# Altium footprint library LegacyDO.PcbLib: 67 footprints (part 1 of 5)
Each footprint in its own frame and in the unit in brackets; x right, y up, seen from the top. Pads: shape width x height; smd on the part's side, far side on the other; paste and mask are expansions set on the pad; w line width, h text height; cw(c..) or ccw(c..) is an arc to the next point about the centre after c.
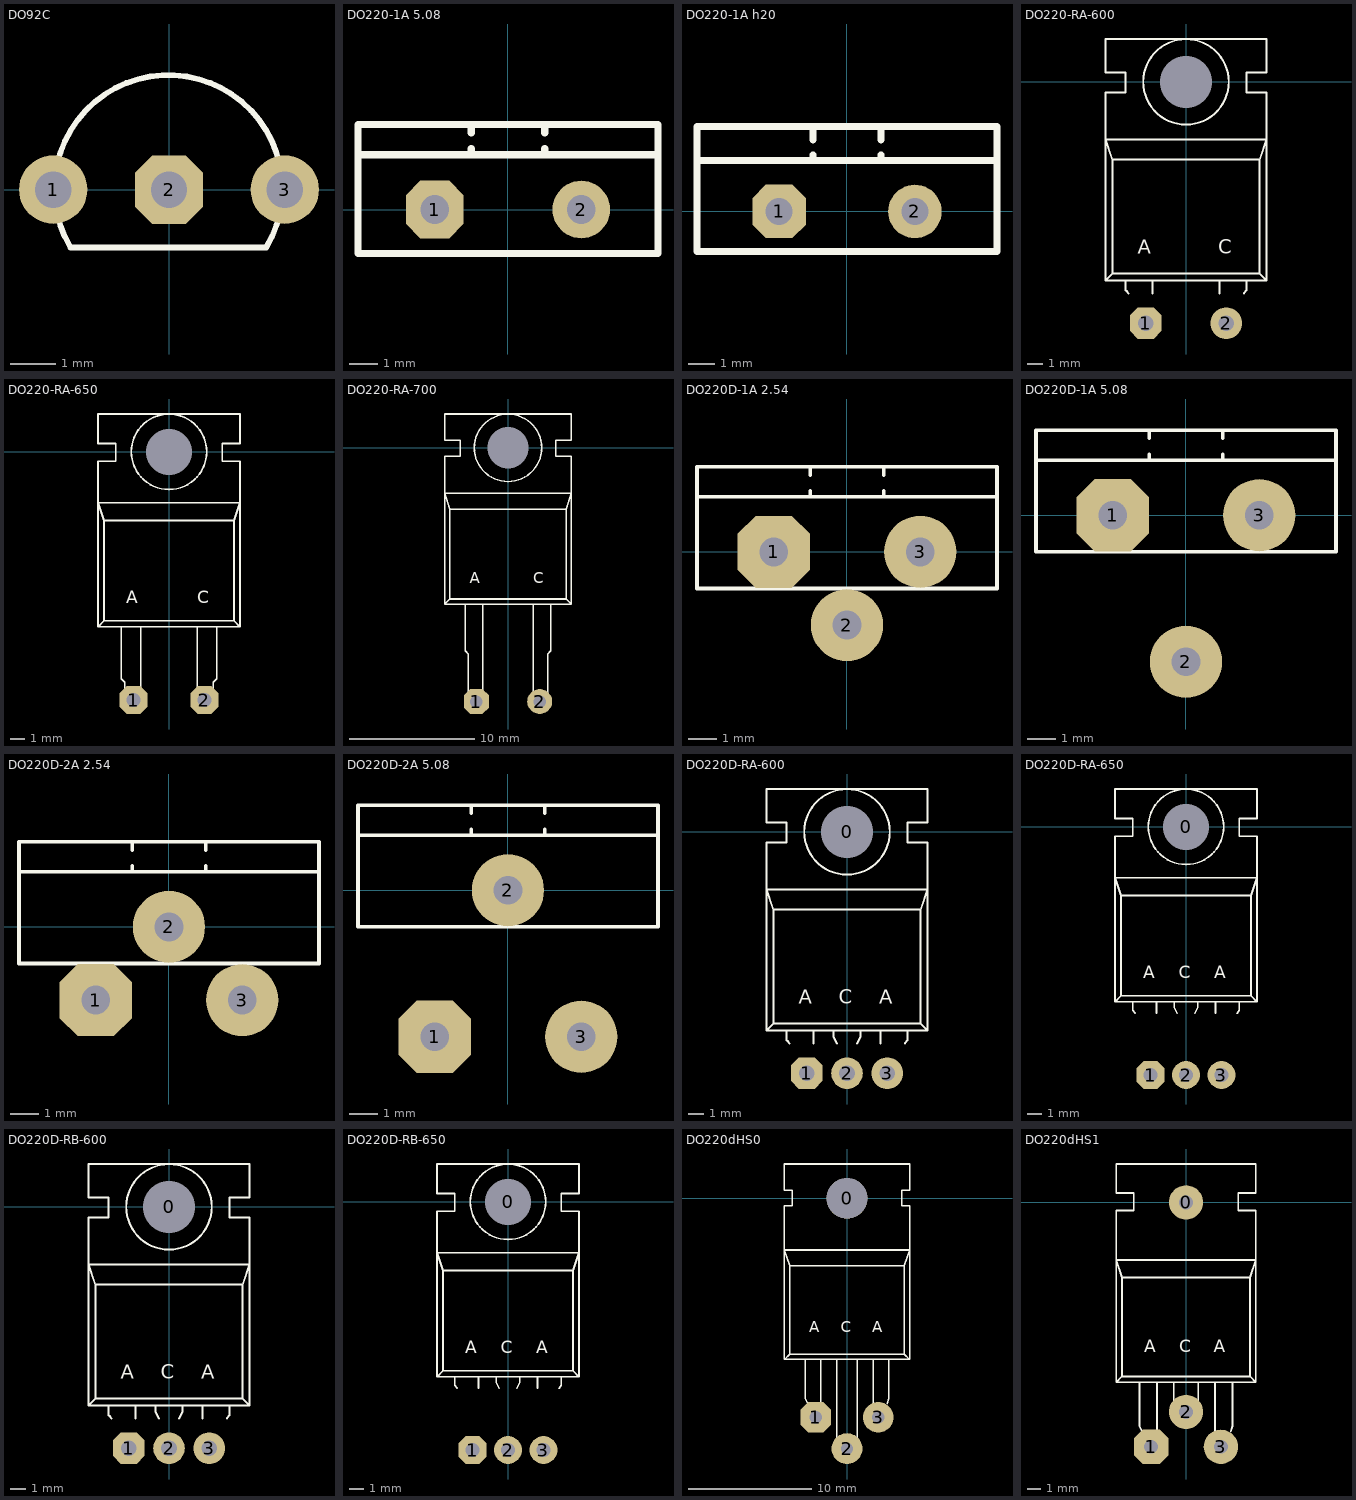
[diagram p0: the footprints below, top view; thin cyan lines are the x and y axes]

## DO92C [mm]
pads (3):
  round 1.5 hole 0.8: 1(-2.54,0) 3(2.54,0)
  oct 1.5x1.5 hole 0.8: 2(0,0)
Top Overlay:
  lines w0.125: -2.159,-1.27 cw(c-0.013,0.012) 2.133,-1.27 -2.159,-1.27
3D body "TO-92C.STEP": height 8, standoff -3.02, extent -2.787,-1.517 2.787,2.413

## DO220-1A 5.08 [mm]
pads (2):
  oct 2x2 hole 1: 1(-2.54,0)
  round 2 hole 1: 2(2.54,0)
Top Overlay:
  lines w0.254: -5.2,1.905 5.2,1.905 ; -1.27,1.905 -1.27,2.117 ; -1.27,2.667 -1.27,2.921 ; 1.27,1.905 1.27,2.117 ; 1.27,2.667 1.27,2.921 ; -5.2,-1.524 -5.2,2.95 5.2,2.95 5.2,-1.524 -5.2,-1.524
Mechanical 3:
  text ".Designator / .Comment" at -2.159,0.508 h1.02
3D body "DO-220-1A 5.08.STEP": height 23.21, standoff -0.91, extent -5.202,-1.55 5.198,2.95

## DO220-1A h20 [mm]
pads (2):
  oct 2x2 hole 1: 1(-2.54,0)
  round 2 hole 1: 2(2.54,0)
Top Overlay:
  lines w0.254: -5.607,1.905 5.607,1.905 ; -1.27,1.905 -1.27,2.117 ; -1.27,2.667 -1.27,3.175 ; 1.27,1.905 1.27,2.117 ; 1.27,2.667 1.27,3.175 ; -5.607,-1.495 5.607,-1.495 5.607,3.175 -5.607,3.175 -5.607,-1.495
Mechanical 3:
  text ".Designator / .Comment" at -2.159,1.143 h1.02
3D body "DO-220AB h20.STEP": height 22.87, standoff -2.5, extent -5.607,-1.495 5.607,3.195

## DO220-RA-600 [mm]
pads (3):
  round 0 hole 3.3: 0(0,0)
  oct 2x2 hole 1: 1(-2.54,-15.24)
  round 2 hole 1: 2(2.54,-15.24)
Top Overlay:
  circle w0.125: c0,0 r2.7
  lines w0.125: -3.81,-13.166 -3.81,-12.531 ; -3.762,-13.198 -3.647,-13.359 ; -2.117,-13.359 -2.117,-12.531 ; 2.117,-13.359 2.117,-12.531 ; 3.655,-13.359 3.818,-13.142 ; 3.81,-13.166 3.81,-12.531 ; -5.08,-12.531 -5.08,-0.677 -3.81,-0.677 -3.81,0.593 -5.08,0.593 -5.08,2.709 5.08,2.709 5.08,0.593 3.81,0.593 3.81,-0.677 5.08,-0.677 5.08,-12.531 ; -5.08,-12.531 5.08,-12.531 ; -5.08,-12.531 -4.657,-12.107 ; -4.657,-12.107 -4.657,-4.911 ; -4.657,-12.107 4.657,-12.107 ; -4.657,-4.911 -5.08,-3.641 5.08,-3.641 4.657,-4.911 ; -4.657,-4.911 4.657,-4.911 ; 4.657,-12.107 4.657,-4.911 ; 4.657,-12.107 5.08,-12.531
  text "C" at 2.032,-11.176 h1.52
  text "A" at -3.048,-11.176 h1.52

## DO220-RA-650 [mm]
pads (3):
  round 0 hole 3.3: 0(0,0)
  oct 2x2 hole 1: 1(-2.54,-17.78) 2(2.54,-17.78)
Top Overlay:
  circle w0.125: c0,0 r2.7
  lines w0.125: -3.429,-12.573 -3.429,-16.256 -3.175,-16.51 -3.175,-17.78 -2.032,-17.78 -2.032,-12.573 ; 2.032,-12.573 2.032,-17.78 3.175,-17.78 3.175,-16.51 3.429,-16.256 3.429,-12.573 ; -5.08,-12.531 -5.08,-0.677 -3.81,-0.677 -3.81,0.593 -5.08,0.593 -5.08,2.709 5.08,2.709 5.08,0.593 3.81,0.593 3.81,-0.677 5.08,-0.677 5.08,-12.531 ; -5.08,-12.531 5.08,-12.531 ; -5.08,-12.531 -4.657,-12.107 ; -4.657,-12.107 -4.657,-4.911 ; -4.657,-12.107 4.657,-12.107 ; -4.657,-4.911 -5.08,-3.641 5.08,-3.641 4.657,-4.911 ; -4.657,-4.911 4.657,-4.911 ; 4.657,-12.107 4.657,-4.911 ; 4.657,-12.107 5.08,-12.531
  text "A" at -3.048,-11.176 h1.52
  text "C" at 2.032,-11.176 h1.52

## DO220-RA-700 [mm]
pads (3):
  round 0 hole 3.3: 0(0,0)
  oct 2x2 hole 1: 1(-2.54,-20.32)
  round 2 hole 1: 2(2.54,-20.32)
Top Overlay:
  circle w0.125: c0,0 r2.7
  lines w0.125: -3.429,-12.573 -3.429,-16.256 -3.175,-16.51 -3.175,-20.32 -2.032,-20.32 -2.032,-12.573 ; 2.032,-12.573 2.032,-20.32 3.175,-20.32 3.175,-16.51 3.429,-16.256 3.429,-12.573 ; -5.08,-12.531 -4.657,-12.107 ; -5.08,-12.531 5.08,-12.531 ; -5.08,-12.531 -5.08,-0.677 -3.81,-0.677 -3.81,0.593 -5.08,0.593 -5.08,2.709 5.08,2.709 5.08,0.593 3.81,0.593 3.81,-0.677 5.08,-0.677 5.08,-12.531 ; -4.657,-12.107 4.657,-12.107 ; -4.657,-12.107 -4.657,-4.911 ; -4.657,-4.911 4.657,-4.911 ; -4.657,-4.911 -5.08,-3.641 5.08,-3.641 4.657,-4.911 ; 4.657,-12.107 5.08,-12.531 ; 4.657,-12.107 4.657,-4.911
  text "A" at -3.048,-11.176 h1.52
  text "C" at 2.032,-11.176 h1.52

## DO220D-1A 2.54 [mm]
pads (3):
  oct 2.5x2.5 hole 1: 1(-2.54,0)
  round 2.5 hole 1: 2(0,-2.54) 3(2.54,0)
Top Overlay:
  lines w0.125: -5.2,1.905 5.2,1.905 ; -1.27,1.905 -1.27,2.117 ; -1.27,2.667 -1.27,2.921 ; 1.27,1.905 1.27,2.117 ; 1.27,2.667 1.27,2.921 ; -5.2,-1.27 5.2,-1.27 5.2,2.95 -5.2,2.95 -5.2,-1.27
3D body "TO220-1A 2.54.STEP": height 23.29, standoff -3.87, extent -5.2,-2.791 5.2,2.95

## DO220D-1A 5.08 [mm]
pads (3):
  oct 2.5x2.5 hole 1: 1(-2.54,0)
  round 2.5 hole 1: 2(0,-5.08) 3(2.54,0)
Top Overlay:
  lines w0.125: -5.2,1.905 5.2,1.905 ; -1.27,1.905 -1.27,2.117 ; -1.27,2.667 -1.27,2.921 ; 1.27,1.905 1.27,2.117 ; 1.27,2.667 1.27,2.921 ; -5.2,-1.27 5.2,-1.27 5.2,2.95 -5.2,2.95 -5.2,-1.27
3D body "TO220-1A 5.08.STEP": height 23.29, standoff -2.41, extent -5.2,-5.331 5.2,2.95

## DO220D-2A 2.54 [mm]
pads (3):
  oct 2.5x2.5 hole 1: 1(-2.54,-2.54)
  round 2.5 hole 1: 2(0,0) 3(2.54,-2.54)
Top Overlay:
  lines w0.125: -5.2,1.905 5.2,1.905 ; -1.27,1.905 -1.27,2.117 ; -1.27,2.667 -1.27,2.921 ; 1.27,1.905 1.27,2.117 ; 1.27,2.667 1.27,2.921 ; -5.2,-1.27 5.2,-1.27 5.2,2.95 -5.2,2.95 -5.2,-1.27
3D body "TO220-2A 2.54.STEP": height 23.29, standoff -3.87, extent -5.2,-2.791 5.2,2.95

## DO220D-2A 5.08 [mm]
pads (3):
  oct 2.5x2.5 hole 1: 1(-2.54,-5.08)
  round 2.5 hole 1: 2(0,0) 3(2.54,-5.08)
Top Overlay:
  lines w0.125: -5.2,1.905 5.2,1.905 ; -1.27,1.905 -1.27,2.117 ; -1.27,2.667 -1.27,2.921 ; 1.27,1.905 1.27,2.117 ; 1.27,2.667 1.27,2.921 ; -5.2,-1.27 -5.2,2.95 5.2,2.95 5.2,-1.27 -5.2,-1.27
3D body "TO220-2A 5.08.STEP": height 23.29, standoff -2.41, extent -5.2,-5.331 5.2,2.95

## DO220D-RA-600 [mm]
pads (4):
  round 3 hole 3.3: 0(0,0)
  oct 2x2 hole 1: 1(-2.54,-15.24)
  round 2 hole 1: 2(0,-15.24) 3(2.54,-15.24)
Top Overlay:
  circle w0.125: c0,0 r2.7
  lines w0.125: -3.81,-13.166 -3.81,-12.531 ; -3.762,-13.198 -3.647,-13.359 ; -2.117,-13.359 -2.117,-12.531 ; -0.847,-12.531 -0.847,-12.954 -0.635,-13.359 ; 0.635,-13.359 0.847,-12.954 0.847,-12.531 ; 2.117,-13.359 2.117,-12.531 ; 3.655,-13.359 3.818,-13.142 ; 3.81,-13.166 3.81,-12.531 ; -5.08,-12.531 -5.08,-0.677 -3.81,-0.677 -3.81,0.593 -5.08,0.593 -5.08,2.709 5.08,2.709 5.08,0.593 3.81,0.593 3.81,-0.677 5.08,-0.677 5.08,-12.531 ; -5.08,-12.531 5.08,-12.531 ; -5.08,-12.531 -4.657,-12.107 ; -4.657,-12.107 -4.657,-4.911 ; -4.657,-12.107 4.657,-12.107 ; -4.657,-4.911 -5.08,-3.641 5.08,-3.641 4.657,-4.911 ; -4.657,-4.911 4.657,-4.911 ; 4.657,-12.107 4.657,-4.911 ; 4.657,-12.107 5.08,-12.531
  text "C" at -0.508,-11.176 h1.52
  text "A" at -3.048,-11.176 h1.52
  text "A" at 2.032,-11.176 h1.52
3D body "TO220-RA-600.STEP": height 4.45, standoff -1.79, extent -5.08,-15.43 5.08,2.54

## DO220D-RA-650 [mm]
pads (4):
  round 3 hole 3.3: 0(0,0)
  oct 2x2 hole 1: 1(-2.54,-17.78)
  round 2 hole 1: 2(0,-17.78) 3(2.54,-17.78)
Top Overlay:
  circle w0.125: c0,0 r2.7
  lines w0.125: -3.81,-13.166 -3.81,-12.531 ; -3.762,-13.198 -3.647,-13.359 ; -2.117,-13.359 -2.117,-12.531 ; -0.847,-12.531 -0.847,-12.954 -0.635,-13.359 ; 0.635,-13.359 0.847,-12.954 0.847,-12.531 ; 2.117,-13.359 2.117,-12.531 ; 3.655,-13.359 3.818,-13.142 ; 3.81,-13.166 3.81,-12.531 ; -5.08,-12.531 -5.08,-0.677 -3.81,-0.677 -3.81,0.593 -5.08,0.593 -5.08,2.709 5.08,2.709 5.08,0.593 3.81,0.593 3.81,-0.677 5.08,-0.677 5.08,-12.531 ; -5.08,-12.531 5.08,-12.531 ; -5.08,-12.531 -4.657,-12.107 ; -4.657,-12.107 -4.657,-4.911 ; -4.657,-12.107 4.657,-12.107 ; -4.657,-4.911 -5.08,-3.641 5.08,-3.641 4.657,-4.911 ; -4.657,-4.911 4.657,-4.911 ; 4.657,-12.107 4.657,-4.911 ; 4.657,-12.107 5.08,-12.531
  text "A" at 2.032,-11.176 h1.52
  text "A" at -3.048,-11.176 h1.52
  text "C" at -0.508,-11.176 h1.52
3D body "TO220-RA-650.STEP": height 4.45, standoff -1.79, extent -5.08,-18.01 5.08,2.54

## DO220D-RB-600 [mm]
pads (4):
  round 3 hole 3.3: 0(0,0)
  oct 2x2 hole 1: 1(-2.54,-15.24)
  round 2 hole 1: 2(0,-15.24) 3(2.54,-15.24)
Top Overlay:
  circle w0.125: c0,0 r2.7
  lines w0.125: -3.81,-13.166 -3.81,-12.531 ; -3.762,-13.198 -3.647,-13.359 ; -2.117,-13.359 -2.117,-12.531 ; -0.847,-12.531 -0.847,-12.954 -0.635,-13.359 ; 0.635,-13.359 0.847,-12.954 0.847,-12.531 ; 2.117,-13.359 2.117,-12.531 ; 3.655,-13.359 3.818,-13.142 ; 3.81,-13.166 3.81,-12.531 ; -5.08,-12.531 -4.657,-12.107 ; -5.08,-12.531 5.08,-12.531 ; -5.08,-12.531 -5.08,-0.677 -3.81,-0.677 -3.81,0.593 -5.08,0.593 -5.08,2.709 5.08,2.709 5.08,0.593 3.81,0.593 3.81,-0.677 5.08,-0.677 5.08,-12.531 ; -4.657,-12.107 4.657,-12.107 ; -4.657,-12.107 -4.657,-4.911 ; -4.657,-4.911 4.657,-4.911 ; -4.657,-4.911 -5.08,-3.641 5.08,-3.641 4.657,-4.911 ; 4.657,-12.107 5.08,-12.531 ; 4.657,-12.107 4.657,-4.911
  text "A" at 2.032,-11.176 h1.52
  text "A" at -3.048,-11.176 h1.52
  text "C" at -0.508,-11.176 h1.52
3D body "TO220-RB-600.STEP": height 2.32, standoff -5, extent -5.08,-15.43 5.08,2.54

## DO220D-RB-650 [mm]
pads (4):
  round 3 hole 3.3: 0(0,0)
  oct 2x2 hole 1: 1(-2.54,-17.78)
  round 2 hole 1: 2(0,-17.78) 3(2.54,-17.78)
Top Overlay:
  circle w0.125: c0,0 r2.7
  lines w0.125: -3.81,-13.166 -3.81,-12.531 ; -3.762,-13.198 -3.647,-13.359 ; -2.117,-13.359 -2.117,-12.531 ; -0.847,-12.531 -0.847,-12.954 -0.635,-13.359 ; 0.635,-13.359 0.847,-12.954 0.847,-12.531 ; 2.117,-13.359 2.117,-12.531 ; 3.655,-13.359 3.818,-13.142 ; 3.81,-13.166 3.81,-12.531 ; -5.08,-12.531 -5.08,-0.677 -3.81,-0.677 -3.81,0.593 -5.08,0.593 -5.08,2.709 5.08,2.709 5.08,0.593 3.81,0.593 3.81,-0.677 5.08,-0.677 5.08,-12.531 ; -5.08,-12.531 5.08,-12.531 ; -5.08,-12.531 -4.657,-12.107 ; -4.657,-12.107 -4.657,-4.911 ; -4.657,-12.107 4.657,-12.107 ; -4.657,-4.911 -5.08,-3.641 5.08,-3.641 4.657,-4.911 ; -4.657,-4.911 4.657,-4.911 ; 4.657,-12.107 4.657,-4.911 ; 4.657,-12.107 5.08,-12.531
  text "C" at -0.508,-11.176 h1.52
  text "A" at -3.048,-11.176 h1.52
  text "A" at 2.032,-11.176 h1.52
3D body "TO220-RB-650.STEP": height 1.72, standoff -5, extent -5.08,-18.01 5.08,2.54

## DO220dHS0 [mm]
pads (4):
  round 3.3 hole 3.3: 0(0,0)
  oct 2.5x2.5 hole 1: 1(-2.54,-17.78)
  round 2.5 hole 1: 2(0,-20.32) 3(2.54,-17.78)
Top Overlay:
  lines w0.125: -3.387,-13.081 -3.387,-16.256 -3.195,-16.661 ; -2.117,-16.661 -2.117,-13.081 ; -0.847,-20.066 -0.847,-13.081 ; 0.847,-20.066 0.847,-13.081 ; 2.117,-16.661 2.117,-13.081 ; 3.251,-16.661 3.387,-16.256 3.387,-13.081 ; -5.08,-13.081 -4.657,-12.658 ; -5.08,-13.081 5.08,-13.081 ; -5.08,-13.081 -5.08,-0.593 -4.445,-0.593 -4.445,0.677 -5.08,0.677 -5.08,2.794 5.08,2.794 5.08,0.677 4.445,0.677 4.445,-0.593 5.08,-0.593 5.08,-3.133 5.08,-13.081 ; -4.657,-12.658 4.657,-12.658 ; -4.657,-12.658 -4.657,-5.461 ; -4.657,-5.461 4.657,-5.461 ; -4.657,-5.461 -5.08,-4.191 5.08,-4.191 4.657,-5.461 ; 4.657,-12.658 4.657,-5.461 ; 4.657,-12.658 5.08,-13.081
  text "C" at -0.508,-11.176 h1.52
  text "A" at -3.048,-11.176 h1.52
  text "A" at 2.032,-11.176 h1.52

## DO220dHS1 [mm]
pads (4):
  round 2.5 hole 1: 0(0,0) 2(0,-15.24) 3(2.54,-17.78)
  oct 2.5x2.5 hole 1: 1(-2.54,-17.78)
Top Overlay:
  lines w0.125: -3.387,-13.081 -3.387,-16.256 -3.195,-16.661 ; -2.117,-16.661 -2.117,-13.081 ; -0.889,-15.24 -0.889,-13.081 ; 0.889,-15.24 0.889,-13.081 ; 2.117,-16.661 2.117,-13.081 ; 3.251,-16.661 3.387,-16.256 3.387,-13.081 ; -5.08,-13.081 -4.657,-12.658 ; -5.08,-13.081 5.08,-13.081 ; -5.08,-13.081 -5.08,-0.593 -3.81,-0.593 -3.81,0.677 -5.08,0.677 -5.08,2.794 5.08,2.794 5.08,0.677 3.81,0.677 3.81,-0.593 5.08,-0.593 5.08,-3.133 5.08,-13.081 ; -4.657,-12.658 4.657,-12.658 ; -4.657,-12.658 -4.657,-5.461 ; -4.657,-5.461 4.657,-5.461 ; -4.657,-5.461 -5.08,-4.191 5.08,-4.191 4.657,-5.461 ; 4.657,-12.658 4.657,-5.461 ; 4.657,-12.658 5.08,-13.081
  text "C" at -0.508,-11.176 h1.52
  text "A" at -3.048,-11.176 h1.52
  text "A" at 2.032,-11.176 h1.52